# Altium schematic symbol library Memory FRAM.SchLib: 14 symbols
Pins are listed as number, name and electrical type; pins without a type are passive.

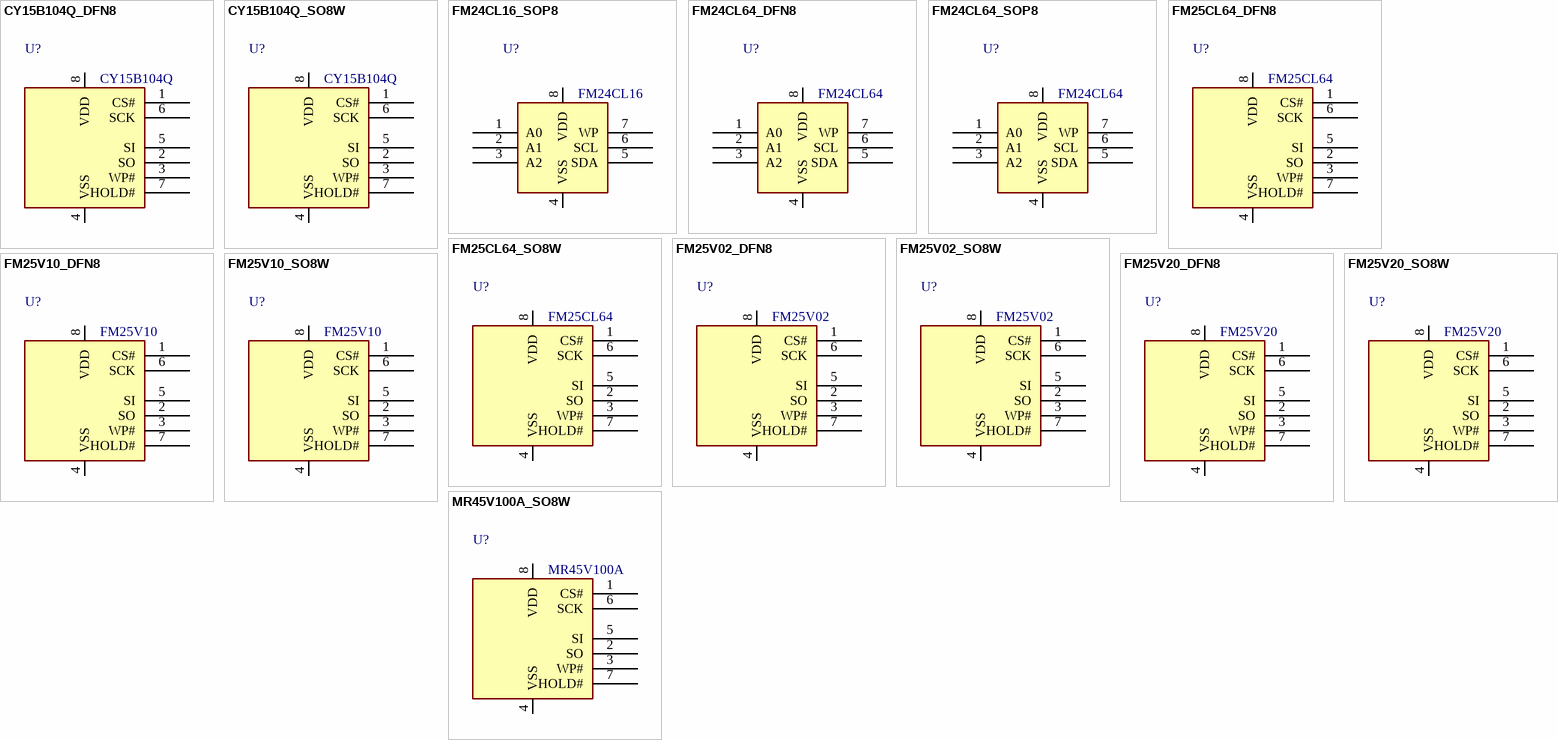
[diagram p0: symbols CY15B104Q_DFN8 to MR45V100A_SO8W]

## CY15B104Q_DFN8
designator U?, comment CY15B104Q
FRAM, SPI, 4Mb (512K x 8), 40MHz, 2~3.6V, DFN-8; MANF: Cypress; MANF_P#: CY15B104Q-LHXI; PARAM2: 2~3.6V; PARAM: 4Mb (512K x 8), 40MHz; PRICE: 26$; VALUE: CY15B104Q
footprint SON127_8T_5X6 (WSON8_6X5)
pins: 1 CS#, 2 SO, 3 WP#, 4 VSS, 5 SI, 6 SCK, 7 HOLD#, 8 VDD

## CY15B104Q_SO8W
designator U?, comment CY15B104Q
FRAM, SPI, 4Mb (512K x 8), 40MHz, 2~3.6V, SOP-8W; MANF: Cypress; MANF_P#: CY15B104Q-SXI; PARAM2: 2~3.6V; PARAM: 4Mb (512K x 8), 40MHz; PRICE: 26$; VALUE: CY15B104Q
footprint SO_8_W (SOIC WIDE, 5x5.3mm body 0.5mm pitch, 5.28mm SOIJ)
pins: 1 CS#, 2 SO, 3 WP#, 4 VSS, 5 SI, 6 SCK, 7 HOLD#, 8 VDD

## FM24CL16_SOP8
designator U?, comment FM24CL16
FRAM, I2C, 16Kb, Serial 3V Memory; MANF: Cypress, RAMTRON; MANF_P#: FM24CL16B-G, FM24CL16-G; PARAM: 16Kb; VALUE: FM24CL16
footprint SO_8 (SOP-8, 5x3.9mm body 1.27mm pitch, SOT96-1, M08A, S8, SOIC8, VO8, MS-012AA(JEDEC), R-8, 8S2, VOG8)
pins: 1 A0, 2 A1, 3 A2, 4 VSS, 5 SDA, 6 SCL, 7 WP, 8 VDD

## FM24CL64_DFN8
designator U?, comment FM24CL64
FRAM, I2C, 64Kb (8K ×8), 3V, DFN-8; MANF: Cypress, RAMTRON; MANF_P#: FM24CL64B-G; PARAM2: 2.7~3.65V; PARAM: 64Kb (8K ×8), 1MHz; VALUE: FM24CL64
footprint SON95_8T_4X4 (Footprint not found)
pins: 1 A0, 2 A1, 3 A2, 4 VSS, 5 SDA, 6 SCL, 7 WP, 8 VDD

## FM24CL64_SOP8
designator U?, comment FM24CL64
FRAM, I2C, 64Kb (8K ×8), Serial 3V Memory; MANF: Cypress, RAMTRON; MANF_P#: FM24CL64B-G; PARAM2: 2.7~3.65V; PARAM: 64Kb (8K ×8), 1MHz; VALUE: FM24CL64
footprint SO_8 (SOP-8, 5x3.9mm body 1.27mm pitch, SOT96-1, M08A, S8, SOIC8, VO8, MS-012AA(JEDEC), R-8, 8S2, VOG8)
pins: 1 A0, 2 A1, 3 A2, 4 VSS, 5 SDA, 6 SCL, 7 WP, 8 VDD

## FM25CL64_DFN8
designator U?, comment FM25CL64
FRAM, SPI, 64Kb (8K x 8), 20MHz, 2~3.6V, DFN-8; MANF: Cypress; MANF_P#: FM25CL64B-DG; PARAM2: 2~3.6V; PARAM: 64Kb (8K x 8), 20MHz; PRICE: 2.5$; VALUE: FM25CL64
footprint SON127_8T_5X6 (WSON8_6X5)
pins: 1 CS#, 2 SO, 3 WP#, 4 VSS, 5 SI, 6 SCK, 7 HOLD#, 8 VDD

## FM25CL64_SO8W
designator U?, comment FM25CL64
FRAM, SPI, 64Kb (8K x 8), 20MHz, 2~3.6V, SOP-8W; MANF: Cypress; MANF_P#: FM25CL64B-G; PARAM2: 2~3.6V; PARAM: 64Kb (8K x 8), 20MHz; PRICE: 2.5$; VALUE: FM25CL64
footprint SO_8_W (SOIC WIDE, 5x5.3mm body 0.5mm pitch, 5.28mm SOIJ)
pins: 1 CS#, 2 SO, 3 WP#, 4 VSS, 5 SI, 6 SCK, 7 HOLD#, 8 VDD

## FM25V02_DFN8
designator U?, comment FM25V02
FRAM, SPI, 256Kb (32K x 8), 33MHz, 2~3.6V, DFN-8; MANF: Cypress; MANF_P#: FM25V02A-DG; PARAM2: 2~3.6V; PARAM: 256Kb (32K x 8), 33MHz; PRICE: 5$; VALUE: FM25V02
footprint SON127_8T_5X6 (WSON8_6X5)
pins: 1 CS#, 2 SO, 3 WP#, 4 VSS, 5 SI, 6 SCK, 7 HOLD#, 8 VDD

## FM25V02_SO8W
designator U?, comment FM25V02
FRAM, SPI, 256Kb (32K x 8), 33MHz, 2~3.6V, SOP-8W; MANF: Cypress; MANF_P#: FM25V02-G; PARAM2: 2~3.6V; PARAM: 256Kb (32K x 8), 33MHz; PRICE: 5$; VALUE: FM25V02
footprint SO_8_W (SOIC WIDE, 5x5.3mm body 0.5mm pitch, 5.28mm SOIJ)
pins: 1 CS#, 2 SO, 3 WP#, 4 VSS, 5 SI, 6 SCK, 7 HOLD#, 8 VDD

## FM25V10_DFN8
designator U?, comment FM25V10
FRAM, SPI, 1Mb (128K x 8), 33MHz, 2~3.6V, DFN-8; MANF: Cypress; MANF_P#: FM25V10A-DG; PARAM2: 2~3.6V; PARAM: 1Mb (128K x 8), 33MHz; PRICE: 13$; VALUE: FM25V10
footprint SON127_8T_5X6 (WSON8_6X5)
pins: 1 CS#, 2 SO, 3 WP#, 4 VSS, 5 SI, 6 SCK, 7 HOLD#, 8 VDD

## FM25V10_SO8W
designator U?, comment FM25V10
FRAM, SPI, 1Mb (128K x 8), 33MHz, 2~3.6V, SOP-8W; MANF: Cypress; MANF_P#: FM25V10-G; PARAM2: 2~3.6V; PARAM: 1Mb (128K x 8), 33MHz; PRICE: 13$; VALUE: FM25V10
footprint SO_8_W (SOIC WIDE, 5x5.3mm body 0.5mm pitch, 5.28mm SOIJ)
pins: 1 CS#, 2 SO, 3 WP#, 4 VSS, 5 SI, 6 SCK, 7 HOLD#, 8 VDD

## FM25V20_DFN8
designator U?, comment FM25V20
FRAM, SPI, 2Mb (256K x 8), 33MHz, 2~3.6V, DFN-8; MANF: Cypress; MANF_P#: FM25V20A-DG; PARAM2: 2~3.6V; PARAM: 2Mb (256K x 8), 33MHz; PRICE: 17$; VALUE: FM25V20
footprint SON127_8T_5X6 (WSON8_6X5)
pins: 1 CS#, 2 SO, 3 WP#, 4 VSS, 5 SI, 6 SCK, 7 HOLD#, 8 VDD

## FM25V20_SO8W
designator U?, comment FM25V20
FRAM, SPI, 2Mb (256K x 8), 33MHz, 2~3.6V, SOP-8W; MANF: Cypress; MANF_P#: FM25V20A-G; PARAM2: 2~3.6V; PARAM: 2Mb (256K x 8), 33MHz; PRICE: 17$; VALUE: FM25V20
footprint SO_8_W (SOIC WIDE, 5x5.3mm body 0.5mm pitch, 5.28mm SOIJ)
pins: 1 CS#, 2 SO, 3 WP#, 4 VSS, 5 SI, 6 SCK, 7 HOLD#, 8 VDD

## MR45V100A_SO8W
designator U?, comment MR45V100A
FRAM, SPI, 1Mb (128K x 8), 33MHz, 2~3.6V, SOP-8W; MANF: ROHM; MANF_P#: MR45V100AMAZAATL; PARAM2: 1.~3.6V; PARAM: 1Mb (128K x 8), 40MHz; PRICE: 5$; VALUE: MR45V100A
footprint SO_8_W (SOIC WIDE, 5x5.3mm body 0.5mm pitch, 5.28mm SOIJ)
pins: 1 CS#, 2 SO, 3 WP#, 4 VSS, 5 SI, 6 SCK, 7 HOLD#, 8 VDD